# Altium footprint library LMZM23600SILT.PcbLib: 1 footprints
Each footprint in its own frame and in the unit in brackets; x right, y up, seen from the top. Pads: shape width x height; smd on the part's side, far side on the other; paste and mask are expansions set on the pad; w line width, h text height; cw(c..) or ccw(c..) is an arc to the next point about the centre after c.
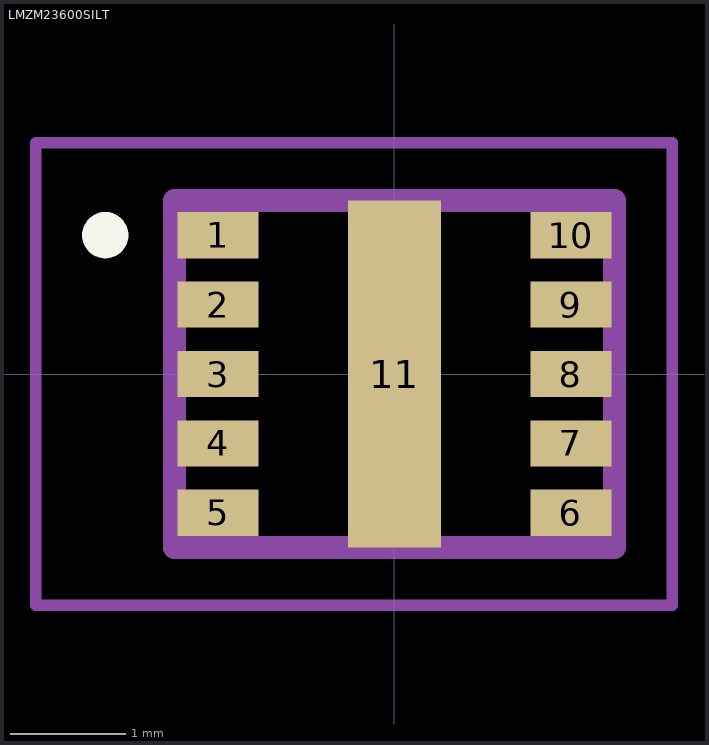
[diagram p0: the footprint, top view; thin cyan lines are the x and y axes]

## LMZM23600SILT [mm]
pads (11):
  rect 0.7x0.4 smd: 1(-1.525,1.2) 2(-1.525,0.6) 3(-1.525,0) 4(-1.525,-0.6) 5(-1.525,-1.2) 6(1.525,-1.2) 7(1.525,-0.6) 8(1.525,0) 9(1.525,0.6) 10(1.525,1.2)
  rect 0.8x3 smd: 11(0,0)
Top Overlay:
  lines w0.2: -2.5,1.1 ccw(c-2.5,1.2) -2.5,1.3 ; -2.5,1.1 -2.5,1.1 ; -2.5,1.1 cw(c-2.5,1.2) -2.5,1.3 ; -2.5,1.3 -2.5,1.3
Mechanical 15:
  lines w0.2: -1.9,-1.5 1.9,-1.5 1.9,1.5 -1.9,1.5 -1.9,-1.5
Mechanical 20:
  lines w0.1: -3.1,-2 2.4,-2 2.4,2 -3.1,2 -3.1,-2
3D body "LMZM23600V3SILR.stp": height 5.8, standoff -4.65, extent -10,-3.376 10,3.376